# EAGLE library part CC3100 (library CC3100)
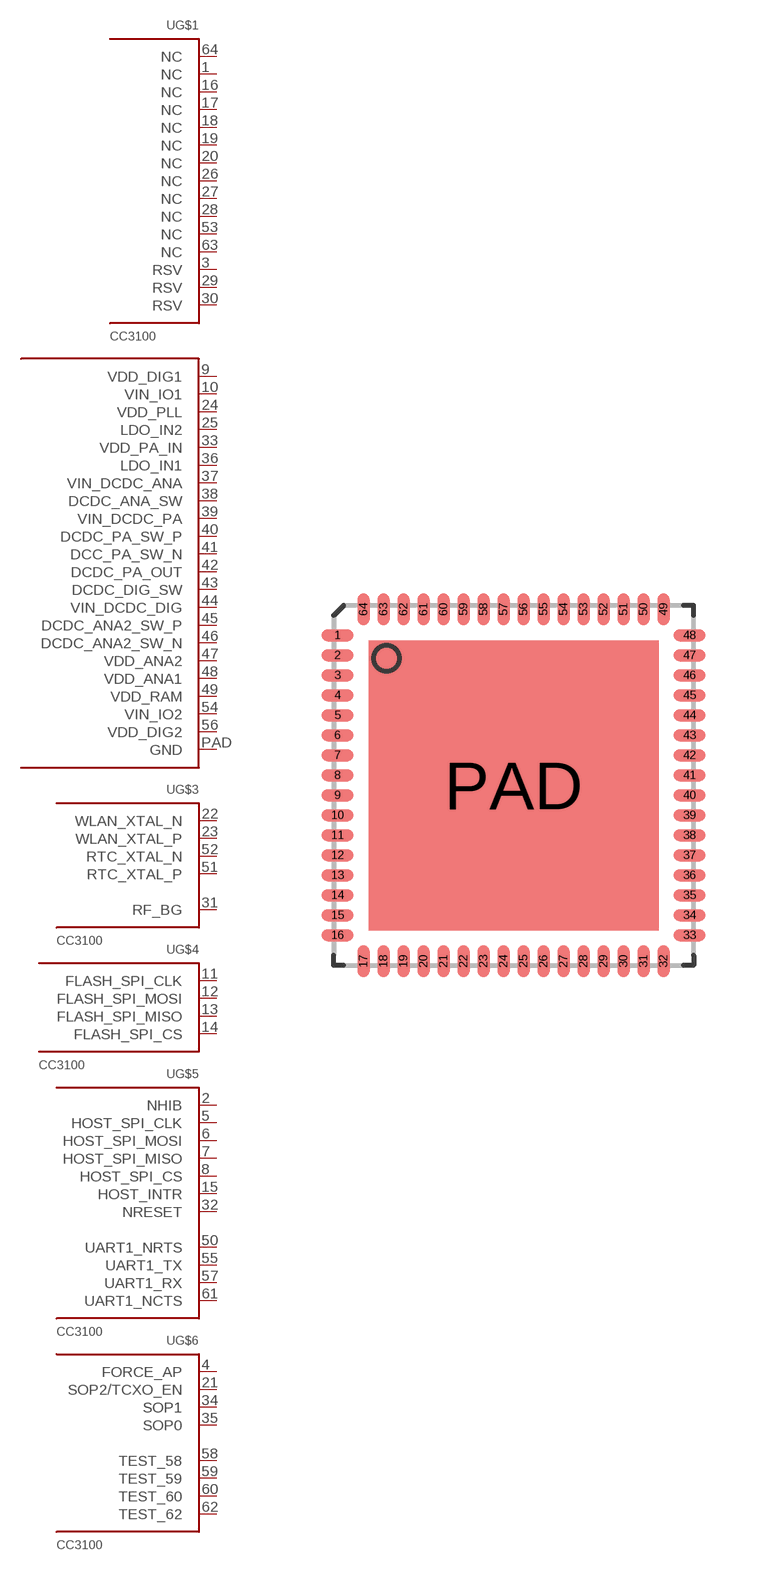
[diagram p0: symbol with the pads of QFN64; footprint QFN64]

Designator prefix U; gates G$1=CC3100-NC G$2=CC3100-PWR G$3=CC3100-ANALOG G$4=CC3100-FLASH G$5=CC3100-HOST G$6=CC3100-SOP

## CC3100  [QFN64]
1  G$1:NC  nc
2  G$5:NHIB  in
3  G$1:RSV  nc
4  G$6:FORCE_AP  in
5  G$5:HOST_SPI_CLK  in
6  G$5:HOST_SPI_MOSI  in
7  G$5:HOST_SPI_MISO  out
8  G$5:HOST_SPI_CS  in
9  G$2:VDD_DIG1  pwr
10  G$2:VIN_IO1  pwr
11  G$4:FLASH_SPI_CLK  out
12  G$4:FLASH_SPI_MOSI  out
13  G$4:FLASH_SPI_MISO  in
14  G$4:FLASH_SPI_CS  out
15  G$5:HOST_INTR  in
16  G$1:NC  nc
17  G$1:NC  nc
18  G$1:NC  nc
19  G$1:NC  nc
20  G$1:NC  nc
21  G$6:SOP2/TCXO_EN  out
22  G$3:WLAN_XTAL_N
23  G$3:WLAN_XTAL_P
24  G$2:VDD_PLL  pwr
25  G$2:LDO_IN2  pwr
26  G$1:NC  nc
27  G$1:NC  nc
28  G$1:NC  nc
29  G$1:RSV  nc
30  G$1:RSV  nc
31  G$3:RF_BG
32  G$5:NRESET  in
33  G$2:VDD_PA_IN  pwr
34  G$6:SOP1  in
35  G$6:SOP0  out
36  G$2:LDO_IN1  pwr
37  G$2:VIN_DCDC_ANA  pwr
38  G$2:DCDC_ANA_SW  pwr
39  G$2:VIN_DCDC_PA  pwr
40  G$2:DCDC_PA_SW_P  pwr
41  G$2:DCC_PA_SW_N  pwr
42  G$2:DCDC_PA_OUT  pwr
43  G$2:DCDC_DIG_SW  pwr
44  G$2:VIN_DCDC_DIG  pwr
45  G$2:DCDC_ANA2_SW_P  pwr
46  G$2:DCDC_ANA2_SW_N  pwr
47  G$2:VDD_ANA2  pwr
48  G$2:VDD_ANA1  pwr
49  G$2:VDD_RAM  pwr
50  G$5:UART1_NRTS  out
51  G$3:RTC_XTAL_P
52  G$3:RTC_XTAL_N
53  G$1:NC  nc
54  G$2:VIN_IO2  pwr
55  G$5:UART1_TX  out
56  G$2:VDD_DIG2  pwr
57  G$5:UART1_RX  in
58  G$6:TEST_58  in
59  G$6:TEST_59  in
60  G$6:TEST_60  in
61  G$5:UART1_NCTS  in
62  G$6:TEST_62  in
63  G$1:NC  nc
64  G$1:NC  nc
PAD  G$2:GND  pwr

## Footprint QFN64 (pad centres in mm)
Quad Flat No Lead Package
smd 0.8 x 0.3: 1 -4.4,3.75; 2 -4.4,3.25; 3 -4.4,2.75; 4 -4.4,2.25; 5 -4.4,1.75; 6 -4.4,1.25; 7 -4.4,0.75; 8 -4.4,0.25; 9 -4.4,-0.25; 10 -4.4,-0.75; 11 -4.4,-1.25; 12 -4.4,-1.75; 13 -4.4,-2.25; 14 -4.4,-2.75; 15 -4.4,-3.25; 16 -4.4,-3.75; 33 4.4,-3.75; 34 4.4,-3.25; 35 4.4,-2.75; 36 4.4,-2.25; 37 4.4,-1.75; 38 4.4,-1.25; 39 4.4,-0.75; 40 4.4,-0.25; 41 4.4,0.25; 42 4.4,0.75; 43 4.4,1.25; 44 4.4,1.75; 45 4.4,2.25; 46 4.4,2.75; 47 4.4,3.25; 48 4.4,3.75
smd 0.3 x 0.8: 17 -3.75,-4.4; 18 -3.25,-4.4; 19 -2.75,-4.4; 20 -2.25,-4.4; 21 -1.75,-4.4; 22 -1.25,-4.4; 23 -0.75,-4.4; 24 -0.25,-4.4; 25 0.25,-4.4; 26 0.75,-4.4; 27 1.25,-4.4; 28 1.75,-4.4; 29 2.25,-4.4; 30 2.75,-4.4; 31 3.25,-4.4; 32 3.75,-4.4; 49 3.75,4.4; 50 3.25,4.4; 51 2.75,4.4; 52 2.25,4.4; 53 1.75,4.4; 54 1.25,4.4; 55 0.75,4.4; 56 0.25,4.4; 57 -0.25,4.4; 58 -0.75,4.4; 59 -1.25,4.4; 60 -1.75,4.4; 61 -2.25,4.4; 62 -2.75,4.4; 63 -3.25,4.4; 64 -3.75,4.4
smd 7.25 x 7.25: PAD 0,0